# Altium integrated library Analog Devices Data Converters Digital-to-Analog Converters.IntLib: 2231 symbols (part 134 of 181)
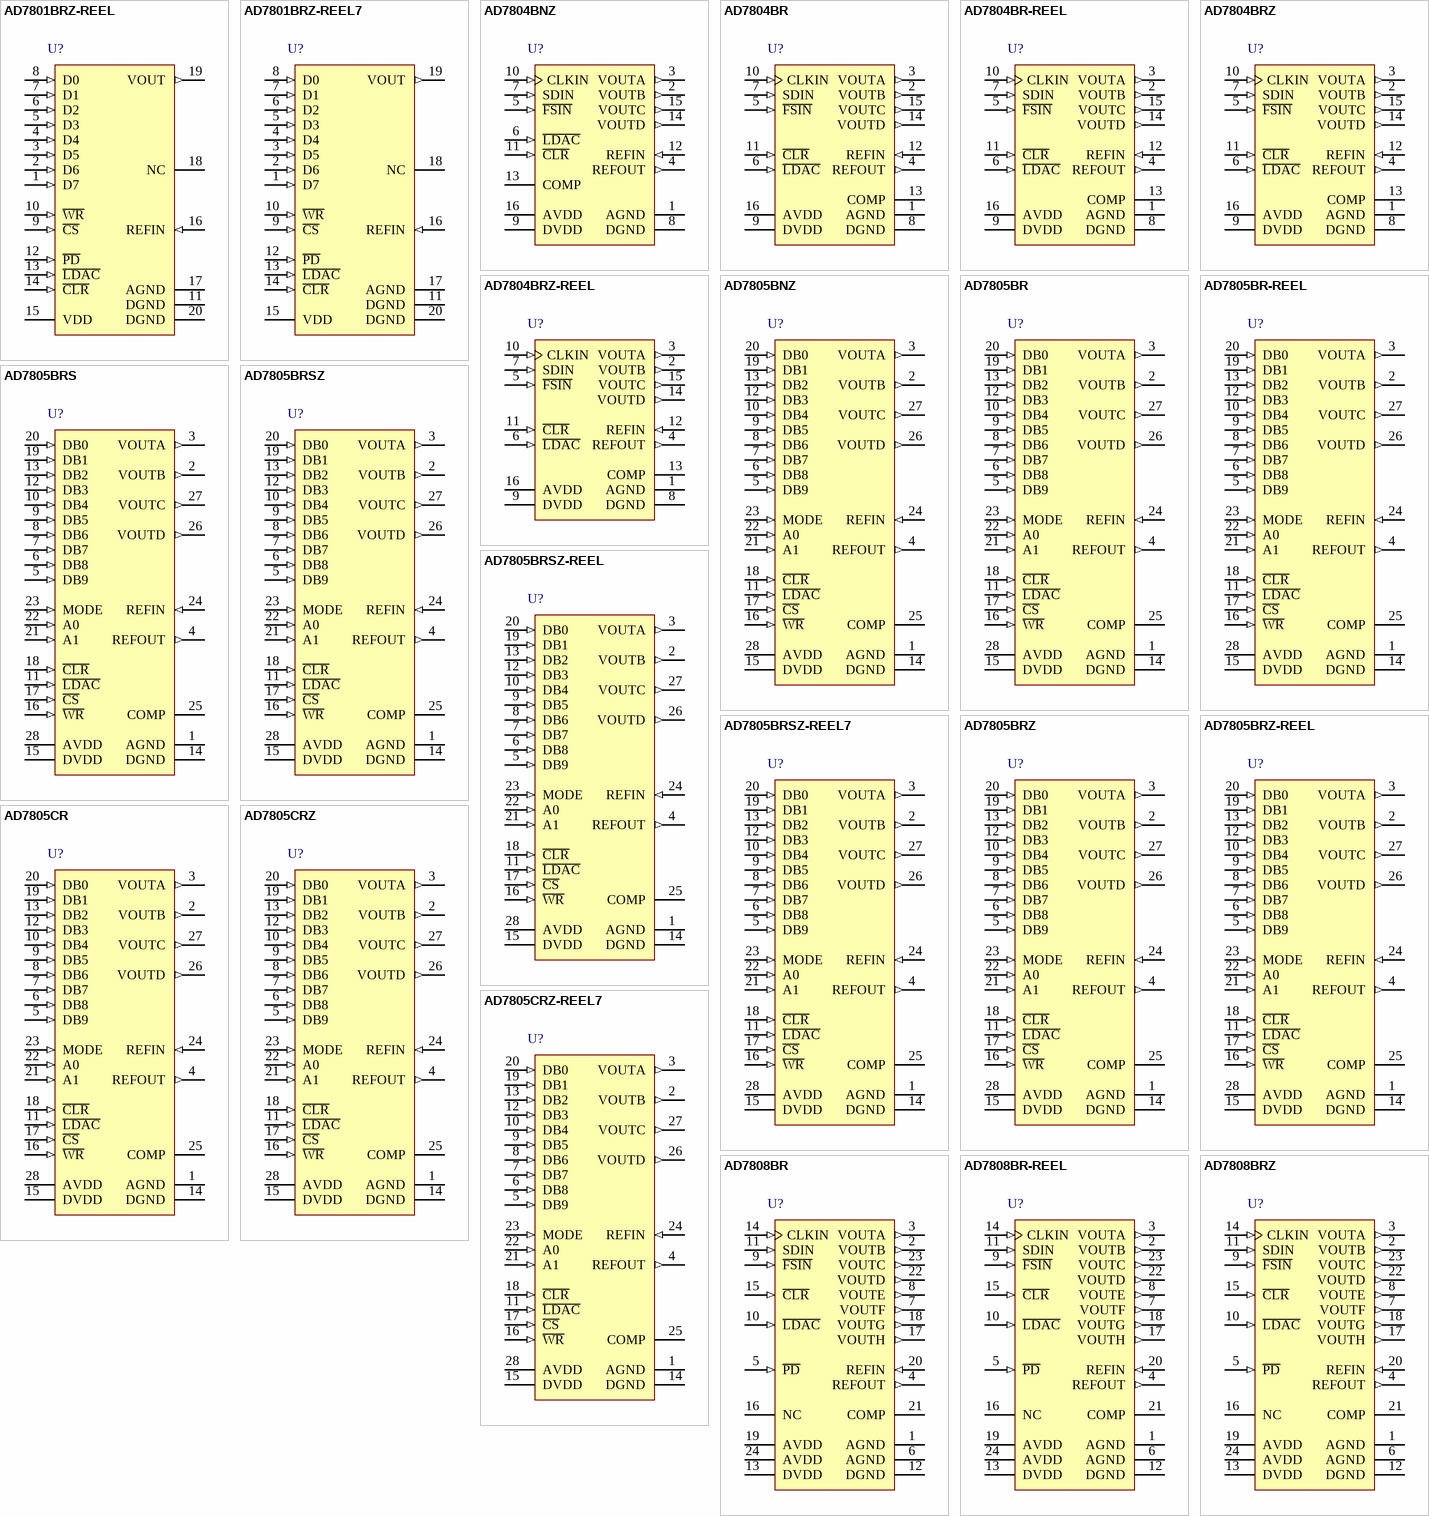
[diagram p247: symbols AD7801BRZ-REEL to AD7808BRZ]

## AD7805BRZ
designator U?
Quad 10-Bit Digital-to-Analog Converter, 3.3 to 5 V, 0 to +70 degC, RW-28, Pb-Free, Tube; Generic Part Number: AD7805; Manufacturer: Analog Devices; PartNumber: AD7805BRZ; # DAC Outputs: 4; Max V+: 5.5V; Op Pwr Diss: 66mW; Resolution (Bits): 10; Settling Time: 1.5µs; Single Supply: Yes; DatasheetVersion: Rev.A; PackageVersion: 060706-A; PackageReference: RW-28; PackageDescription: 28-Lead Standard Small Outline Package [SOIC_W]; Supplier 1: Digi-Key; Supplier Part Number 1: AD7805BRZ-ND; Supplier 2: Mouser; Supplier Part Number 2: 584-AD7805BRZ; Packing: Tube; RoHS: Y; Mounting Technology: Surface Mount; Code_JEDEC: MS-013-AE; ComponentLink1Description: Manufacturer URL; ComponentLink1URL: http://www.analog.com/en/index.html; ComponentLink2Description: Datasheet; ComponentLink2URL: http://www.analog.com/static/imported-files/data_sheets/AD7804_7805_7808_7809.pdf; ComponentLink3Description: Product URL; ComponentLink3URL: http://www.analog.com/en/digital-to-analog-converters/da-converters/ad7805/products/product.html
footprint RW-28_N (SOIC, 28-Leads, Body 17.9x7.5mm, Pitch 1.27mm, IPC Medium Density)
footprint RW-28_L (SOIC, 28-Leads, Body 17.9x7.5mm, Pitch 1.27mm, IPC High Density)
footprint RW-28_M (SOIC, 28-Leads, Body 17.9x7.5mm, Pitch 1.27mm, IPC Low Density)
pins: 1 AGND (power) "Ground reference point for analog circuitry.", 2 VOUTB (out) "Analog output voltages from the DACs.", 3 VOUTA (out) "Analog output voltages from the DACs.", 4 REFOUT (out) "Reference Output. This is a bandgap reference and is typically 1.23 V.", 5 DB9 (in) "Data Input. DB9 is the 8 MSBs of the data word.", 6 DB8 (in) "Data Input. DB8 is the 8 MSBs of the data word.", 7 DB7 (in) "Data Input. DB7 is the 8 MSBs of the data word.", 8 DB6 (in) "Data Input. DB6 is the 8 MSBs of the data word.", 9 DB5 (in) "Data Input. DB5 is the 8 MSBs of the data word.", 10 DB4 (in) "Data Input. DB4 is the 8 MSBs of the data word.", 11 ~{LDAC} (in) "L\D\A\C\ Input. When this digital input is taken low, all DAC registers are simultaneously updated with the contents of the DAC data registers. If L\D\A\C\ is permanently tied low, or is low during the rising edge of W\R\ (See Datasheet)", 12 DB3 (in) "Data Input. DB3 is the 8 MSBs of the data word.", 13 DB2 (in) "Data Input. DB2 is the 8 MSBs of the data word.", 14 DGND (power) "Ground reference point for digital circuitry.", 15 DVDD (power) "Digital Power Supply.", 16 ~{WR} (in) "Write Input W\R\ is an active low logic input which is used in conjunction with C\S\ and the address pins to write data to the relevant registers.", 17 ~{CS} (in) "Chip Select. Active low logic input.", 18 ~{CLR} (in) "Asynchronous C\L\R\ Input.  When this input is taken low, all Main DAC outputs are cleared either to VBIAS or to VBIAS/16 volts. All Sub DACs are also cleared and thus the transfer function of the MAIN DAC will remain (See Datasheet)", 19 DB1 (in) "DB1 function as the 2 LSBs of the 10-bit word in 10-bit parallel mode but have other functions when BYTE loading structure is used.", 20 DB0 (in) "DB0 function as the 2 LSBs of the 10-bit word in 10-bit parallel mode but have other functions when BYTE loading structure is used.", 21 A1 (in) "DAC Address Inputs. These digital inputs are used in conjunction with C\S\ and W\R\ to determine which DAC channel control register or DAC data register is loaded from the input register. These address bits are don’t cares (See Datasheet)", 22 A0 (in) "DAC Address Inputs. These digital inputs are used in conjunction with C\S\ and W\R\ to determine which DAC channel control register or DAC data register is loaded from the input register. These address bits are don’t cares (See Datasheet)", 23 MODE (in) "Logic Input. Logic high enables writing to the DAC data registers, a logic low enables writing to the control registers.", 24 REFIN (in) "This is an external reference input for the DAC. When this reference is selected for the DAC in the control register, the analog output from the selected DAC swings around this point.", 25 COMP "Compensation Pin. This pin provides an output from the internal VDD/2 divider and is provided for ac bypass purposes only. This pin should be decoupled with 1 nF capacitors to both AVDD and AGND. This pin can be overdriven (See Datasheet)", 26 VOUTD (out) "Analog output voltages from the DACs.", 27 VOUTC (out) "Analog output voltages from the DACs.", 28 AVDD (power) "Analog Power Supply."

## AD7805BRZ-REEL
designator U?
Quad 10-Bit Digital-to-Analog Converter, 3.3 to 5 V, 0 to +70 degC, RW-28, Pb-Free, Reel; Generic Part Number: AD7805; Manufacturer: Analog Devices; PartNumber: AD7805BRZ-REEL; # DAC Outputs: 4; Max V+: 5.5V; Op Pwr Diss: 66mW; Resolution (Bits): 10; Settling Time: 1.5µs; Single Supply: Yes; DatasheetVersion: Rev.A; PackageVersion: 060706-A; PackageReference: RW-28; PackageDescription: 28-Lead Standard Small Outline Package [SOIC_W]; Supplier 1: Digi-Key; Supplier Part Number 1: AD7805BRZ-REEL-ND; Supplier 2: Mouser; Supplier Part Number 2: 584-AD7805BRZ-R; Packing: Reel; RoHS: Y; Mounting Technology: Surface Mount; Code_JEDEC: MS-013-AE; ComponentLink1Description: Manufacturer URL; ComponentLink1URL: http://www.analog.com/en/index.html; ComponentLink2Description: Datasheet; ComponentLink2URL: http://www.analog.com/static/imported-files/data_sheets/AD7804_7805_7808_7809.pdf; ComponentLink3Description: Product URL; ComponentLink3URL: http://www.analog.com/en/digital-to-analog-converters/da-converters/ad7805/products/product.html
footprint RW-28_N (SOIC, 28-Leads, Body 17.9x7.5mm, Pitch 1.27mm, IPC Medium Density)
footprint RW-28_L (SOIC, 28-Leads, Body 17.9x7.5mm, Pitch 1.27mm, IPC High Density)
footprint RW-28_M (SOIC, 28-Leads, Body 17.9x7.5mm, Pitch 1.27mm, IPC Low Density)
pins: 1 AGND (power) "Ground reference point for analog circuitry.", 2 VOUTB (out) "Analog output voltages from the DACs.", 3 VOUTA (out) "Analog output voltages from the DACs.", 4 REFOUT (out) "Reference Output. This is a bandgap reference and is typically 1.23 V.", 5 DB9 (in) "Data Input. DB9 is the 8 MSBs of the data word.", 6 DB8 (in) "Data Input. DB8 is the 8 MSBs of the data word.", 7 DB7 (in) "Data Input. DB7 is the 8 MSBs of the data word.", 8 DB6 (in) "Data Input. DB6 is the 8 MSBs of the data word.", 9 DB5 (in) "Data Input. DB5 is the 8 MSBs of the data word.", 10 DB4 (in) "Data Input. DB4 is the 8 MSBs of the data word.", 11 ~{LDAC} (in) "L\D\A\C\ Input. When this digital input is taken low, all DAC registers are simultaneously updated with the contents of the DAC data registers. If L\D\A\C\ is permanently tied low, or is low during the rising edge of W\R\ (See Datasheet)", 12 DB3 (in) "Data Input. DB3 is the 8 MSBs of the data word.", 13 DB2 (in) "Data Input. DB2 is the 8 MSBs of the data word.", 14 DGND (power) "Ground reference point for digital circuitry.", 15 DVDD (power) "Digital Power Supply.", 16 ~{WR} (in) "Write Input W\R\ is an active low logic input which is used in conjunction with C\S\ and the address pins to write data to the relevant registers.", 17 ~{CS} (in) "Chip Select. Active low logic input.", 18 ~{CLR} (in) "Asynchronous C\L\R\ Input.  When this input is taken low, all Main DAC outputs are cleared either to VBIAS or to VBIAS/16 volts. All Sub DACs are also cleared and thus the transfer function of the MAIN DAC will remain (See Datasheet)", 19 DB1 (in) "DB1 function as the 2 LSBs of the 10-bit word in 10-bit parallel mode but have other functions when BYTE loading structure is used.", 20 DB0 (in) "DB0 function as the 2 LSBs of the 10-bit word in 10-bit parallel mode but have other functions when BYTE loading structure is used.", 21 A1 (in) "DAC Address Inputs. These digital inputs are used in conjunction with C\S\ and W\R\ to determine which DAC channel control register or DAC data register is loaded from the input register. These address bits are don’t cares (See Datasheet)", 22 A0 (in) "DAC Address Inputs. These digital inputs are used in conjunction with C\S\ and W\R\ to determine which DAC channel control register or DAC data register is loaded from the input register. These address bits are don’t cares (See Datasheet)", 23 MODE (in) "Logic Input. Logic high enables writing to the DAC data registers, a logic low enables writing to the control registers.", 24 REFIN (in) "This is an external reference input for the DAC. When this reference is selected for the DAC in the control register, the analog output from the selected DAC swings around this point.", 25 COMP "Compensation Pin. This pin provides an output from the internal VDD/2 divider and is provided for ac bypass purposes only. This pin should be decoupled with 1 nF capacitors to both AVDD and AGND. This pin can be overdriven (See Datasheet)", 26 VOUTD (out) "Analog output voltages from the DACs.", 27 VOUTC (out) "Analog output voltages from the DACs.", 28 AVDD (power) "Analog Power Supply."

## AD7805CR
designator U?
Quad 10-Bit Digital-to-Analog Converter, 3.3 to 5 V, 0 to +70 degC, RW-28, Tube; Generic Part Number: AD7805; Manufacturer: Analog Devices; PartNumber: AD7805CR; # DAC Outputs: 4; Max V+: 5.5V; Op Pwr Diss: 66mW; Resolution (Bits): 10; Settling Time: 1.5µs; Single Supply: Yes; DatasheetVersion: Rev.A; PackageVersion: 060706-A; PackageReference: RW-28; PackageDescription: 28-Lead Standard Small Outline Package [SOIC_W]; Supplier 1: Digi-Key; Supplier Part Number 1: AD7805CR-ND; Supplier 2: Mouser; Supplier Part Number 2: 584-AD7805CR; Packing: Tube; RoHS: N; Mounting Technology: Surface Mount; Code_JEDEC: MS-013-AE; ComponentLink1Description: Manufacturer URL; ComponentLink1URL: http://www.analog.com/en/index.html; ComponentLink2Description: Datasheet; ComponentLink2URL: http://www.analog.com/static/imported-files/data_sheets/AD7804_7805_7808_7809.pdf; ComponentLink3Description: Product URL; ComponentLink3URL: http://www.analog.com/en/digital-to-analog-converters/da-converters/ad7805/products/product.html
footprint RW-28_N (SOIC, 28-Leads, Body 17.9x7.5mm, Pitch 1.27mm, IPC Medium Density)
footprint RW-28_L (SOIC, 28-Leads, Body 17.9x7.5mm, Pitch 1.27mm, IPC High Density)
footprint RW-28_M (SOIC, 28-Leads, Body 17.9x7.5mm, Pitch 1.27mm, IPC Low Density)
pins: 1 AGND (power) "Ground reference point for analog circuitry.", 2 VOUTB (out) "Analog output voltages from the DACs.", 3 VOUTA (out) "Analog output voltages from the DACs.", 4 REFOUT (out) "Reference Output. This is a bandgap reference and is typically 1.23 V.", 5 DB9 (in) "Data Input. DB9 is the 8 MSBs of the data word.", 6 DB8 (in) "Data Input. DB8 is the 8 MSBs of the data word.", 7 DB7 (in) "Data Input. DB7 is the 8 MSBs of the data word.", 8 DB6 (in) "Data Input. DB6 is the 8 MSBs of the data word.", 9 DB5 (in) "Data Input. DB5 is the 8 MSBs of the data word.", 10 DB4 (in) "Data Input. DB4 is the 8 MSBs of the data word.", 11 ~{LDAC} (in) "L\D\A\C\ Input. When this digital input is taken low, all DAC registers are simultaneously updated with the contents of the DAC data registers. If L\D\A\C\ is permanently tied low, or is low during the rising edge of W\R\ (See Datasheet)", 12 DB3 (in) "Data Input. DB3 is the 8 MSBs of the data word.", 13 DB2 (in) "Data Input. DB2 is the 8 MSBs of the data word.", 14 DGND (power) "Ground reference point for digital circuitry.", 15 DVDD (power) "Digital Power Supply.", 16 ~{WR} (in) "Write Input W\R\ is an active low logic input which is used in conjunction with C\S\ and the address pins to write data to the relevant registers.", 17 ~{CS} (in) "Chip Select. Active low logic input.", 18 ~{CLR} (in) "Asynchronous C\L\R\ Input.  When this input is taken low, all Main DAC outputs are cleared either to VBIAS or to VBIAS/16 volts. All Sub DACs are also cleared and thus the transfer function of the MAIN DAC will remain (See Datasheet)", 19 DB1 (in) "DB1 function as the 2 LSBs of the 10-bit word in 10-bit parallel mode but have other functions when BYTE loading structure is used.", 20 DB0 (in) "DB0 function as the 2 LSBs of the 10-bit word in 10-bit parallel mode but have other functions when BYTE loading structure is used.", 21 A1 (in) "DAC Address Inputs. These digital inputs are used in conjunction with C\S\ and W\R\ to determine which DAC channel control register or DAC data register is loaded from the input register. These address bits are don’t cares (See Datasheet)", 22 A0 (in) "DAC Address Inputs. These digital inputs are used in conjunction with C\S\ and W\R\ to determine which DAC channel control register or DAC data register is loaded from the input register. These address bits are don’t cares (See Datasheet)", 23 MODE (in) "Logic Input. Logic high enables writing to the DAC data registers, a logic low enables writing to the control registers.", 24 REFIN (in) "This is an external reference input for the DAC. When this reference is selected for the DAC in the control register, the analog output from the selected DAC swings around this point.", 25 COMP "Compensation Pin. This pin provides an output from the internal VDD/2 divider and is provided for ac bypass purposes only. This pin should be decoupled with 1 nF capacitors to both AVDD and AGND. This pin can be overdriven (See Datasheet)", 26 VOUTD (out) "Analog output voltages from the DACs.", 27 VOUTC (out) "Analog output voltages from the DACs.", 28 AVDD (power) "Analog Power Supply."

## AD7805CRZ
designator U?
Quad 10-Bit Digital-to-Analog Converter, 3.3 to 5 V, 0 to +70 degC, RW-28, Pb-Free, Tube; Generic Part Number: AD7805; Manufacturer: Analog Devices; PartNumber: AD7805CRZ; # DAC Outputs: 4; Max V+: 5.5V; Op Pwr Diss: 66mW; Resolution (Bits): 10; Settling Time: 1.5µs; Single Supply: Yes; DatasheetVersion: Rev.A; PackageVersion: 060706-A; PackageReference: RW-28; PackageDescription: 28-Lead Standard Small Outline Package [SOIC_W]; Supplier 1: Digi-Key; Supplier Part Number 1: AD7805CRZ-ND; Supplier 2: Mouser; Supplier Part Number 2: 584-AD7805CRZ; Packing: Tube; RoHS: Y; Mounting Technology: Surface Mount; Code_JEDEC: MS-013-AE; ComponentLink1Description: Manufacturer URL; ComponentLink1URL: http://www.analog.com/en/index.html; ComponentLink2Description: Datasheet; ComponentLink2URL: http://www.analog.com/static/imported-files/data_sheets/AD7804_7805_7808_7809.pdf; ComponentLink3Description: Product URL; ComponentLink3URL: http://www.analog.com/en/digital-to-analog-converters/da-converters/ad7805/products/product.html
footprint RW-28_N (SOIC, 28-Leads, Body 17.9x7.5mm, Pitch 1.27mm, IPC Medium Density)
footprint RW-28_L (SOIC, 28-Leads, Body 17.9x7.5mm, Pitch 1.27mm, IPC High Density)
footprint RW-28_M (SOIC, 28-Leads, Body 17.9x7.5mm, Pitch 1.27mm, IPC Low Density)
pins: 1 AGND (power) "Ground reference point for analog circuitry.", 2 VOUTB (out) "Analog output voltages from the DACs.", 3 VOUTA (out) "Analog output voltages from the DACs.", 4 REFOUT (out) "Reference Output. This is a bandgap reference and is typically 1.23 V.", 5 DB9 (in) "Data Input. DB9 is the 8 MSBs of the data word.", 6 DB8 (in) "Data Input. DB8 is the 8 MSBs of the data word.", 7 DB7 (in) "Data Input. DB7 is the 8 MSBs of the data word.", 8 DB6 (in) "Data Input. DB6 is the 8 MSBs of the data word.", 9 DB5 (in) "Data Input. DB5 is the 8 MSBs of the data word.", 10 DB4 (in) "Data Input. DB4 is the 8 MSBs of the data word.", 11 ~{LDAC} (in) "L\D\A\C\ Input. When this digital input is taken low, all DAC registers are simultaneously updated with the contents of the DAC data registers. If L\D\A\C\ is permanently tied low, or is low during the rising edge of W\R\ (See Datasheet)", 12 DB3 (in) "Data Input. DB3 is the 8 MSBs of the data word.", 13 DB2 (in) "Data Input. DB2 is the 8 MSBs of the data word.", 14 DGND (power) "Ground reference point for digital circuitry.", 15 DVDD (power) "Digital Power Supply.", 16 ~{WR} (in) "Write Input W\R\ is an active low logic input which is used in conjunction with C\S\ and the address pins to write data to the relevant registers.", 17 ~{CS} (in) "Chip Select. Active low logic input.", 18 ~{CLR} (in) "Asynchronous C\L\R\ Input.  When this input is taken low, all Main DAC outputs are cleared either to VBIAS or to VBIAS/16 volts. All Sub DACs are also cleared and thus the transfer function of the MAIN DAC will remain (See Datasheet)", 19 DB1 (in) "DB1 function as the 2 LSBs of the 10-bit word in 10-bit parallel mode but have other functions when BYTE loading structure is used.", 20 DB0 (in) "DB0 function as the 2 LSBs of the 10-bit word in 10-bit parallel mode but have other functions when BYTE loading structure is used.", 21 A1 (in) "DAC Address Inputs. These digital inputs are used in conjunction with C\S\ and W\R\ to determine which DAC channel control register or DAC data register is loaded from the input register. These address bits are don’t cares (See Datasheet)", 22 A0 (in) "DAC Address Inputs. These digital inputs are used in conjunction with C\S\ and W\R\ to determine which DAC channel control register or DAC data register is loaded from the input register. These address bits are don’t cares (See Datasheet)", 23 MODE (in) "Logic Input. Logic high enables writing to the DAC data registers, a logic low enables writing to the control registers.", 24 REFIN (in) "This is an external reference input for the DAC. When this reference is selected for the DAC in the control register, the analog output from the selected DAC swings around this point.", 25 COMP "Compensation Pin. This pin provides an output from the internal VDD/2 divider and is provided for ac bypass purposes only. This pin should be decoupled with 1 nF capacitors to both AVDD and AGND. This pin can be overdriven (See Datasheet)", 26 VOUTD (out) "Analog output voltages from the DACs.", 27 VOUTC (out) "Analog output voltages from the DACs.", 28 AVDD (power) "Analog Power Supply."

## AD7805CRZ-REEL7
designator U?
Quad 10-Bit Digital-to-Analog Converter, 3.3 to 5 V, 0 to +70 degC, RW-28, Pb-Free, Reel; Generic Part Number: AD7805; Manufacturer: Analog Devices; PartNumber: AD7805CRZ-REEL7; # DAC Outputs: 4; Max V+: 5.5V; Op Pwr Diss: 66mW; Resolution (Bits): 10; Settling Time: 1.5µs; Single Supply: Yes; DatasheetVersion: Rev.A; PackageVersion: 060706-A; PackageReference: RW-28; PackageDescription: 28-Lead Standard Small Outline Package [SOIC_W]; Supplier 1: Digi-Key; Supplier Part Number 1: AD7805CRZ-REEL7-ND; Supplier 2: Mouser; Supplier Part Number 2: 584-AD7805CRZ-R7; Packing: Reel; RoHS: Y; Mounting Technology: Surface Mount; Code_JEDEC: MS-013-AE; ComponentLink1Description: Manufacturer URL; ComponentLink1URL: http://www.analog.com/en/index.html; ComponentLink2Description: Datasheet; ComponentLink2URL: http://www.analog.com/static/imported-files/data_sheets/AD7804_7805_7808_7809.pdf; ComponentLink3Description: Product URL; ComponentLink3URL: http://www.analog.com/en/digital-to-analog-converters/da-converters/ad7805/products/product.html
footprint RW-28_N (SOIC, 28-Leads, Body 17.9x7.5mm, Pitch 1.27mm, IPC Medium Density)
footprint RW-28_L (SOIC, 28-Leads, Body 17.9x7.5mm, Pitch 1.27mm, IPC High Density)
footprint RW-28_M (SOIC, 28-Leads, Body 17.9x7.5mm, Pitch 1.27mm, IPC Low Density)
pins: 1 AGND (power) "Ground reference point for analog circuitry.", 2 VOUTB (out) "Analog output voltages from the DACs.", 3 VOUTA (out) "Analog output voltages from the DACs.", 4 REFOUT (out) "Reference Output. This is a bandgap reference and is typically 1.23 V.", 5 DB9 (in) "Data Input. DB9 is the 8 MSBs of the data word.", 6 DB8 (in) "Data Input. DB8 is the 8 MSBs of the data word.", 7 DB7 (in) "Data Input. DB7 is the 8 MSBs of the data word.", 8 DB6 (in) "Data Input. DB6 is the 8 MSBs of the data word.", 9 DB5 (in) "Data Input. DB5 is the 8 MSBs of the data word.", 10 DB4 (in) "Data Input. DB4 is the 8 MSBs of the data word.", 11 ~{LDAC} (in) "L\D\A\C\ Input. When this digital input is taken low, all DAC registers are simultaneously updated with the contents of the DAC data registers. If L\D\A\C\ is permanently tied low, or is low during the rising edge of W\R\ (See Datasheet)", 12 DB3 (in) "Data Input. DB3 is the 8 MSBs of the data word.", 13 DB2 (in) "Data Input. DB2 is the 8 MSBs of the data word.", 14 DGND (power) "Ground reference point for digital circuitry.", 15 DVDD (power) "Digital Power Supply.", 16 ~{WR} (in) "Write Input W\R\ is an active low logic input which is used in conjunction with C\S\ and the address pins to write data to the relevant registers.", 17 ~{CS} (in) "Chip Select. Active low logic input.", 18 ~{CLR} (in) "Asynchronous C\L\R\ Input.  When this input is taken low, all Main DAC outputs are cleared either to VBIAS or to VBIAS/16 volts. All Sub DACs are also cleared and thus the transfer function of the MAIN DAC will remain (See Datasheet)", 19 DB1 (in) "DB1 function as the 2 LSBs of the 10-bit word in 10-bit parallel mode but have other functions when BYTE loading structure is used.", 20 DB0 (in) "DB0 function as the 2 LSBs of the 10-bit word in 10-bit parallel mode but have other functions when BYTE loading structure is used.", 21 A1 (in) "DAC Address Inputs. These digital inputs are used in conjunction with C\S\ and W\R\ to determine which DAC channel control register or DAC data register is loaded from the input register. These address bits are don’t cares (See Datasheet)", 22 A0 (in) "DAC Address Inputs. These digital inputs are used in conjunction with C\S\ and W\R\ to determine which DAC channel control register or DAC data register is loaded from the input register. These address bits are don’t cares (See Datasheet)", 23 MODE (in) "Logic Input. Logic high enables writing to the DAC data registers, a logic low enables writing to the control registers.", 24 REFIN (in) "This is an external reference input for the DAC. When this reference is selected for the DAC in the control register, the analog output from the selected DAC swings around this point.", 25 COMP "Compensation Pin. This pin provides an output from the internal VDD/2 divider and is provided for ac bypass purposes only. This pin should be decoupled with 1 nF capacitors to both AVDD and AGND. This pin can be overdriven (See Datasheet)", 26 VOUTD (out) "Analog output voltages from the DACs.", 27 VOUTC (out) "Analog output voltages from the DACs.", 28 AVDD (power) "Analog Power Supply."

## AD7808BR
designator U?
Octal 10-Bit Digital-to-Analog Converter, 3.3 to 5 V, -40 to +85 degC, RW-24, Tube; Generic Part Number: AD7808; Manufacturer: Analog Devices; PartNumber: AD7808BR; # DAC Outputs: 8; Max V+: 5.5V; Op Pwr Diss: 99mW; Resolution (Bits): 10; Settling Time: 1.5µs; Single Supply: Yes; DatasheetVersion: Rev.A; PackageVersion: 060706-A; PackageReference: RW-24; PackageDescription: 24-Lead Standard Small Outline Package [SOIC_W]; Supplier 1: Digi-Key; Supplier Part Number 1: AD7808BR-ND; Supplier 2: Mouser; Supplier Part Number 2: 584-AD7808BR; Packing: Tube; RoHS: N; Mounting Technology: Surface Mount; Code_JEDEC: MS-013-AD; ComponentLink1Description: Manufacturer URL; ComponentLink1URL: http://www.analog.com/en/index.html; ComponentLink2Description: Datasheet; ComponentLink2URL: http://www.analog.com/static/imported-files/data_sheets/AD7804_7805_7808_7809.pdf; ComponentLink3Description: Package Specification; ComponentLink3URL: http://www.analog.com/static/imported-files/packages/33665150946139RW_24.pdf; ComponentLink4Description: Product URL; ComponentLink4URL: http://www.analog.com/en/digital-to-analog-converters/da-converters/ad7808/products/product.html
footprint RW-24_N (SOIC, 24-Leads, Body 15.4x7.5mm, Pitch 1.27mm, IPC Medium Density)
footprint RW-24_L (SOIC, 24-Leads, Body 15.4x7.5mm, Pitch 1.27mm, IPC High Density)
footprint RW-24_M (SOIC, 24-Leads, Body 15.4x7.5mm, Pitch 1.27mm, IPC Low Density)
pins: 1 AGND (power) "Ground reference point for analog circuitry.", 2 VOUTB (out) "Analog output voltage from the DACs.", 3 VOUTA (out) "Analog output voltage from the DACs.", 4 REFOUT (out) "Reference Output. This is a bandgap reference and is typically 1.23 V.", 5 ~{PD} (in) "Active low input used to put the part into low power mode reducing current consumption to 1 uA.", 6 AGND (power) "Ground reference point for analog circuitry.", 7 VOUTF (out) "Analog output voltages from the DACs.", 8 VOUTE (out) "Analog output voltages from the DACs.", 9 ~{FSIN} (in) "Level-triggered control input (active low).  This is the frame synchronization signal for the input data.  When F\S\I\N\ goes low, it enables the input shift register and data is transferred on the falling edges of CLKIN.", 10 ~{LDAC} (in) "L\D\A\C\ Input.  When this digital input is taken low, all DAC registers are simultaneously updated with the contents of the data registers. If  L\D\A\C\ is tied permanently low, or is low on the sixteenth falling clock edge (See Datasheet)", 11 SDIN (in) "Serial Data Input.  These devices accept a 16-bit word. Data is clocked into the input shift register on the falling edge of CLKIN.", 12 DGND (power) "Ground reference point for digital circuitry.", 13 DVDD (power) "Digital Power Supply.", 14 CLKIN (in) "Clock Input.  Data is clocked into the input shift register on the falling edges of CLKIN.Duty Cycle should be between 40% and 60%.", 15 ~{CLR} (in) "Asynchronous C\L\R\ Input. When this input is taken low, all Main DAC outputs are cleared either to VBIAS or to VBIAS/16 volts. All Sub DACs are also cleared and thus the transfer function of the Main DAC will remain (See Datasheet)", 16 NC "No Connect. This pin should be left open circuit.", 17 VOUTH (out) "Analog output voltages from the DACs.", 18 VOUTG (out) "Analog output voltages from the DACs.", 19 AVDD (power) "Analog Power Supply. +3.3 V to +5 V.", 20 REFIN (in) "This is an external reference input for the DACs. When this reference is selected for a DAC in the control register, the analog output from the selected DAC swings around this point.", 21 COMP "Compensation Pin. This pin provides an output from the internal VDD/2 divider and is provided for ac bypass purposes only. This pin should be decoupled with 1 nF capacitors to both AVDD and AGND. This pin can be overdriven (See Datasheet)", 22 VOUTD (out) "Analog output voltage from the DACs.", 23 VOUTC (out) "Analog output voltage from the DACs.", 24 AVDD (power) "Analog Power Supply. +3.3 V to +5 V."

## AD7808BR-REEL
designator U?
Octal 10-Bit Digital-to-Analog Converter, 3.3 to 5 V, -40 to +85 degC, RW-24, Reel; Generic Part Number: AD7808; Manufacturer: Analog Devices; PartNumber: AD7808BR-REEL; # DAC Outputs: 8; Max V+: 5.5V; Op Pwr Diss: 99mW; Resolution (Bits): 10; Settling Time: 1.5µs; Single Supply: Yes; DatasheetVersion: Rev.A; PackageVersion: 060706-A; PackageReference: RW-24; PackageDescription: 24-Lead Standard Small Outline Package [SOIC_W]; Supplier 1: Digi-Key; Supplier Part Number 1: AD7808BR-REEL-ND; Supplier 2: Mouser; Supplier Part Number 2: 584-AD7808BR-R; Packing: Reel; RoHS: N; Mounting Technology: Surface Mount; Code_JEDEC: MS-013-AD; ComponentLink1Description: Manufacturer URL; ComponentLink1URL: http://www.analog.com/en/index.html; ComponentLink2Description: Datasheet; ComponentLink2URL: http://www.analog.com/static/imported-files/data_sheets/AD7804_7805_7808_7809.pdf; ComponentLink3Description: Package Specification; ComponentLink3URL: http://www.analog.com/static/imported-files/packages/33665150946139RW_24.pdf; ComponentLink4Description: Product URL; ComponentLink4URL: http://www.analog.com/en/digital-to-analog-converters/da-converters/ad7808/products/product.html
footprint RW-24_N (SOIC, 24-Leads, Body 15.4x7.5mm, Pitch 1.27mm, IPC Medium Density)
footprint RW-24_L (SOIC, 24-Leads, Body 15.4x7.5mm, Pitch 1.27mm, IPC High Density)
footprint RW-24_M (SOIC, 24-Leads, Body 15.4x7.5mm, Pitch 1.27mm, IPC Low Density)
pins: 1 AGND (power) "Ground reference point for analog circuitry.", 2 VOUTB (out) "Analog output voltage from the DACs.", 3 VOUTA (out) "Analog output voltage from the DACs.", 4 REFOUT (out) "Reference Output. This is a bandgap reference and is typically 1.23 V.", 5 ~{PD} (in) "Active low input used to put the part into low power mode reducing current consumption to 1 uA.", 6 AGND (power) "Ground reference point for analog circuitry.", 7 VOUTF (out) "Analog output voltages from the DACs.", 8 VOUTE (out) "Analog output voltages from the DACs.", 9 ~{FSIN} (in) "Level-triggered control input (active low).  This is the frame synchronization signal for the input data.  When F\S\I\N\ goes low, it enables the input shift register and data is transferred on the falling edges of CLKIN.", 10 ~{LDAC} (in) "L\D\A\C\ Input.  When this digital input is taken low, all DAC registers are simultaneously updated with the contents of the data registers. If  L\D\A\C\ is tied permanently low, or is low on the sixteenth falling clock edge (See Datasheet)", 11 SDIN (in) "Serial Data Input.  These devices accept a 16-bit word. Data is clocked into the input shift register on the falling edge of CLKIN.", 12 DGND (power) "Ground reference point for digital circuitry.", 13 DVDD (power) "Digital Power Supply.", 14 CLKIN (in) "Clock Input.  Data is clocked into the input shift register on the falling edges of CLKIN.Duty Cycle should be between 40% and 60%.", 15 ~{CLR} (in) "Asynchronous C\L\R\ Input. When this input is taken low, all Main DAC outputs are cleared either to VBIAS or to VBIAS/16 volts. All Sub DACs are also cleared and thus the transfer function of the Main DAC will remain (See Datasheet)", 16 NC "No Connect. This pin should be left open circuit.", 17 VOUTH (out) "Analog output voltages from the DACs.", 18 VOUTG (out) "Analog output voltages from the DACs.", 19 AVDD (power) "Analog Power Supply. +3.3 V to +5 V.", 20 REFIN (in) "This is an external reference input for the DACs. When this reference is selected for a DAC in the control register, the analog output from the selected DAC swings around this point.", 21 COMP "Compensation Pin. This pin provides an output from the internal VDD/2 divider and is provided for ac bypass purposes only. This pin should be decoupled with 1 nF capacitors to both AVDD and AGND. This pin can be overdriven (See Datasheet)", 22 VOUTD (out) "Analog output voltage from the DACs.", 23 VOUTC (out) "Analog output voltage from the DACs.", 24 AVDD (power) "Analog Power Supply. +3.3 V to +5 V."

## AD7808BRZ
designator U?
Octal 10-Bit Digital-to-Analog Converter, 3.3 to 5 V, -40 to +85 degC, RW-24, Pb-Free, Tube; Generic Part Number: AD7808; Manufacturer: Analog Devices; PartNumber: AD7808BRZ; # DAC Outputs: 8; Max V+: 5.5V; Op Pwr Diss: 99mW; Resolution (Bits): 10; Settling Time: 1.5µs; Single Supply: Yes; DatasheetVersion: Rev.A; PackageVersion: 060706-A; PackageReference: RW-24; PackageDescription: 24-Lead Standard Small Outline Package [SOIC_W]; Supplier 1: Digi-Key; Supplier Part Number 1: AD7808BRZ-ND; Supplier 2: Newark; Supplier Part Number 2: 59K5500; Supplier 3: Mouser; Supplier Part Number 3: 584-AD7808BRZ; Packing: Tube; RoHS: Y; Mounting Technology: Surface Mount; Code_JEDEC: MS-013-AD; ComponentLink1Description: Manufacturer URL; ComponentLink1URL: http://www.analog.com/en/index.html; ComponentLink2Description: Datasheet; ComponentLink2URL: http://www.analog.com/static/imported-files/data_sheets/AD7804_7805_7808_7809.pdf; ComponentLink3Description: Package Specification; ComponentLink3URL: http://www.analog.com/static/imported-files/packages/33665150946139RW_24.pdf; ComponentLink4Description: Product URL; ComponentLink4URL: http://www.analog.com/en/digital-to-analog-converters/da-converters/ad7808/products/product.html
footprint RW-24_N (SOIC, 24-Leads, Body 15.4x7.5mm, Pitch 1.27mm, IPC Medium Density)
footprint RW-24_L (SOIC, 24-Leads, Body 15.4x7.5mm, Pitch 1.27mm, IPC High Density)
footprint RW-24_M (SOIC, 24-Leads, Body 15.4x7.5mm, Pitch 1.27mm, IPC Low Density)
pins: 1 AGND (power) "Ground reference point for analog circuitry.", 2 VOUTB (out) "Analog output voltage from the DACs.", 3 VOUTA (out) "Analog output voltage from the DACs.", 4 REFOUT (out) "Reference Output. This is a bandgap reference and is typically 1.23 V.", 5 ~{PD} (in) "Active low input used to put the part into low power mode reducing current consumption to 1 uA.", 6 AGND (power) "Ground reference point for analog circuitry.", 7 VOUTF (out) "Analog output voltages from the DACs.", 8 VOUTE (out) "Analog output voltages from the DACs.", 9 ~{FSIN} (in) "Level-triggered control input (active low).  This is the frame synchronization signal for the input data.  When F\S\I\N\ goes low, it enables the input shift register and data is transferred on the falling edges of CLKIN.", 10 ~{LDAC} (in) "L\D\A\C\ Input.  When this digital input is taken low, all DAC registers are simultaneously updated with the contents of the data registers. If  L\D\A\C\ is tied permanently low, or is low on the sixteenth falling clock edge (See Datasheet)", 11 SDIN (in) "Serial Data Input.  These devices accept a 16-bit word. Data is clocked into the input shift register on the falling edge of CLKIN.", 12 DGND (power) "Ground reference point for digital circuitry.", 13 DVDD (power) "Digital Power Supply.", 14 CLKIN (in) "Clock Input.  Data is clocked into the input shift register on the falling edges of CLKIN.Duty Cycle should be between 40% and 60%.", 15 ~{CLR} (in) "Asynchronous C\L\R\ Input. When this input is taken low, all Main DAC outputs are cleared either to VBIAS or to VBIAS/16 volts. All Sub DACs are also cleared and thus the transfer function of the Main DAC will remain (See Datasheet)", 16 NC "No Connect. This pin should be left open circuit.", 17 VOUTH (out) "Analog output voltages from the DACs.", 18 VOUTG (out) "Analog output voltages from the DACs.", 19 AVDD (power) "Analog Power Supply. +3.3 V to +5 V.", 20 REFIN (in) "This is an external reference input for the DACs. When this reference is selected for a DAC in the control register, the analog output from the selected DAC swings around this point.", 21 COMP "Compensation Pin. This pin provides an output from the internal VDD/2 divider and is provided for ac bypass purposes only. This pin should be decoupled with 1 nF capacitors to both AVDD and AGND. This pin can be overdriven (See Datasheet)", 22 VOUTD (out) "Analog output voltage from the DACs.", 23 VOUTC (out) "Analog output voltage from the DACs.", 24 AVDD (power) "Analog Power Supply. +3.3 V to +5 V."

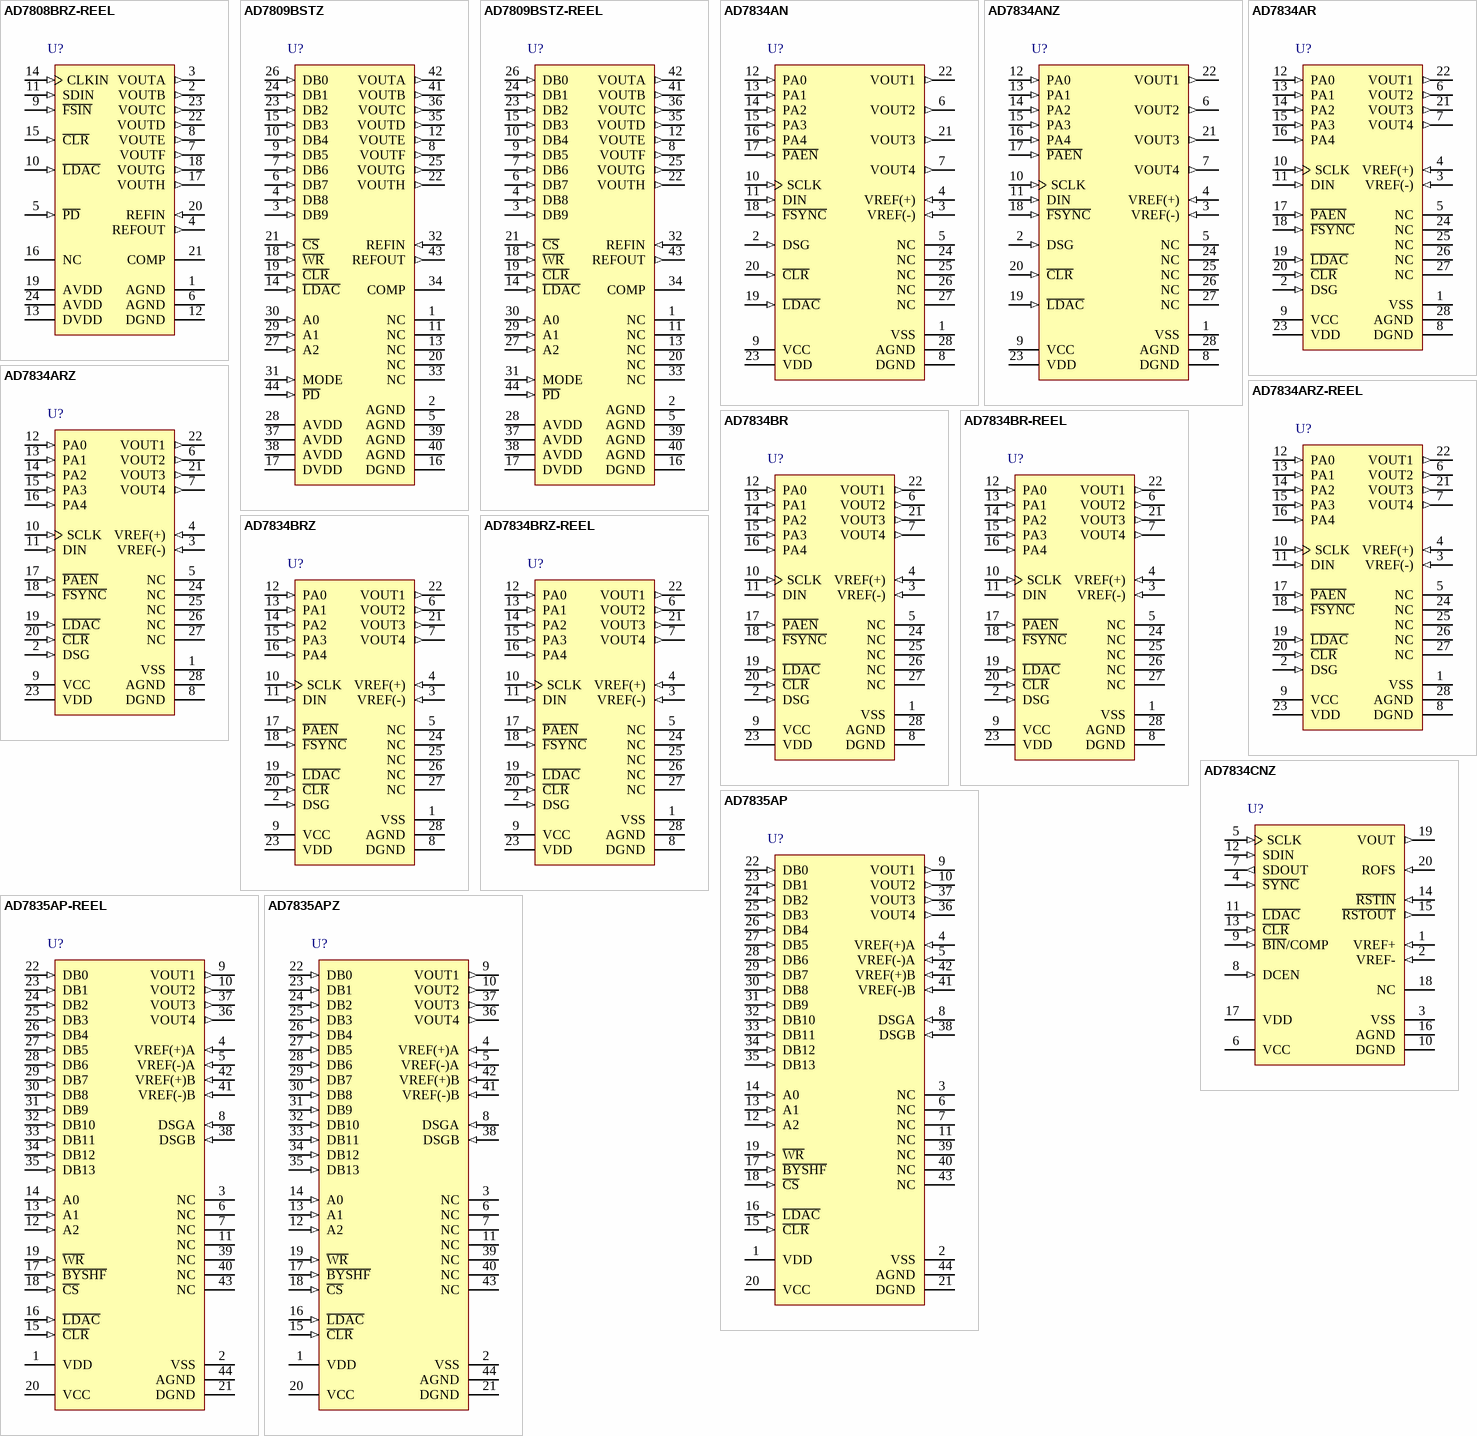
[diagram p74: symbols AD7808BRZ-REEL to AD7835APZ]

## AD7808BRZ-REEL
designator U?
Octal 10-Bit Digital-to-Analog Converter, 3.3 to 5 V, -40 to +85 degC, RW-24, Pb-Free, Reel; Generic Part Number: AD7808; Manufacturer: Analog Devices; PartNumber: AD7808BRZ-REEL; # DAC Outputs: 8; Max V+: 5.5V; Op Pwr Diss: 99mW; Resolution (Bits): 10; Settling Time: 1.5µs; Single Supply: Yes; DatasheetVersion: Rev.A; PackageVersion: 060706-A; PackageReference: RW-24; PackageDescription: 24-Lead Standard Small Outline Package [SOIC_W]; Supplier 1: Digi-Key; Supplier Part Number 1: AD7808BRZ-REEL-ND; Supplier 2: Mouser; Supplier Part Number 2: 584-AD7808BRZ-R; Packing: Reel; RoHS: Y; Mounting Technology: Surface Mount; Code_JEDEC: MS-013-AD; ComponentLink1Description: Manufacturer URL; ComponentLink1URL: http://www.analog.com/en/index.html; ComponentLink2Description: Datasheet; ComponentLink2URL: http://www.analog.com/static/imported-files/data_sheets/AD7804_7805_7808_7809.pdf; ComponentLink3Description: Package Specification; ComponentLink3URL: http://www.analog.com/static/imported-files/packages/33665150946139RW_24.pdf; ComponentLink4Description: Product URL; ComponentLink4URL: http://www.analog.com/en/digital-to-analog-converters/da-converters/ad7808/products/product.html
footprint RW-24_N (SOIC, 24-Leads, Body 15.4x7.5mm, Pitch 1.27mm, IPC Medium Density)
footprint RW-24_L (SOIC, 24-Leads, Body 15.4x7.5mm, Pitch 1.27mm, IPC High Density)
footprint RW-24_M (SOIC, 24-Leads, Body 15.4x7.5mm, Pitch 1.27mm, IPC Low Density)
pins: 1 AGND (power) "Ground reference point for analog circuitry.", 2 VOUTB (out) "Analog output voltage from the DACs.", 3 VOUTA (out) "Analog output voltage from the DACs.", 4 REFOUT (out) "Reference Output. This is a bandgap reference and is typically 1.23 V.", 5 ~{PD} (in) "Active low input used to put the part into low power mode reducing current consumption to 1 uA.", 6 AGND (power) "Ground reference point for analog circuitry.", 7 VOUTF (out) "Analog output voltages from the DACs.", 8 VOUTE (out) "Analog output voltages from the DACs.", 9 ~{FSIN} (in) "Level-triggered control input (active low).  This is the frame synchronization signal for the input data.  When F\S\I\N\ goes low, it enables the input shift register and data is transferred on the falling edges of CLKIN.", 10 ~{LDAC} (in) "L\D\A\C\ Input.  When this digital input is taken low, all DAC registers are simultaneously updated with the contents of the data registers. If  L\D\A\C\ is tied permanently low, or is low on the sixteenth falling clock edge (See Datasheet)", 11 SDIN (in) "Serial Data Input.  These devices accept a 16-bit word. Data is clocked into the input shift register on the falling edge of CLKIN.", 12 DGND (power) "Ground reference point for digital circuitry.", 13 DVDD (power) "Digital Power Supply.", 14 CLKIN (in) "Clock Input.  Data is clocked into the input shift register on the falling edges of CLKIN.Duty Cycle should be between 40% and 60%.", 15 ~{CLR} (in) "Asynchronous C\L\R\ Input. When this input is taken low, all Main DAC outputs are cleared either to VBIAS or to VBIAS/16 volts. All Sub DACs are also cleared and thus the transfer function of the Main DAC will remain (See Datasheet)", 16 NC "No Connect. This pin should be left open circuit.", 17 VOUTH (out) "Analog output voltages from the DACs.", 18 VOUTG (out) "Analog output voltages from the DACs.", 19 AVDD (power) "Analog Power Supply. +3.3 V to +5 V.", 20 REFIN (in) "This is an external reference input for the DACs. When this reference is selected for a DAC in the control register, the analog output from the selected DAC swings around this point.", 21 COMP "Compensation Pin. This pin provides an output from the internal VDD/2 divider and is provided for ac bypass purposes only. This pin should be decoupled with 1 nF capacitors to both AVDD and AGND. This pin can be overdriven (See Datasheet)", 22 VOUTD (out) "Analog output voltage from the DACs.", 23 VOUTC (out) "Analog output voltage from the DACs.", 24 AVDD (power) "Analog Power Supply. +3.3 V to +5 V."

## AD7809BSTZ
designator U?
Octal 10-Bit Digital-to-Analog Converter, 3.3 to 5 V, -40 to +85 degC, SU-44, Pb-Free, Tray; Generic Part Number: AD7809; Manufacturer: Analog Devices; PartNumber: AD7809BSTZ; # DAC Outputs: 8; Max V+: 5.5V; Op Pwr Diss: 99mW; Resolution (Bits): 10; Settling Time: 1.5µs; Single Supply: Yes; DatasheetVersion: Rev.A; PackageVersion: 2003; PackageReference: SU-44; PackageDescription: 44-Lead Thin Plastic Quad Flat Package [TQFP]; Supplier 1: Digi-Key; Supplier Part Number 1: AD7809BSTZ-ND; Supplier 2: Newark; Supplier Part Number 2: 59K5502; Supplier 3: Mouser; Supplier Part Number 3: 584-AD7809BSTZ; Packing: Tray; RoHS: Y; Mounting Technology: Surface Mount; Code_JEDEC: MS-026-ACB; ComponentLink1Description: Manufacturer URL; ComponentLink1URL: http://www.analog.com/en/index.html; ComponentLink2Description: Datasheet; ComponentLink2URL: http://www.analog.com/static/imported-files/data_sheets/AD7804_7805_7808_7809.pdf; ComponentLink3Description: Package Specification; ComponentLink3URL: http://www.analog.com/static/imported-files/packages/433604008844224432481202SU_44.pdf; ComponentLink4Description: Product URL; ComponentLink4URL: http://www.analog.com/en/digital-to-analog-converters/da-converters/ad7809/products/product.html
footprint SU-44_N (Thin QFP, 44-Leads, Body 10x10mm, Pitch 0.8mm, IPC Medium Density)
footprint SU-44_L (Thin QFP, 44-Leads, Body 10x10mm, Pitch 0.8mm, IPC High Density)
footprint SU-44_M (Thin QFP, 44-Leads, Body 10x10mm, Pitch 0.8mm, IPC Low Density)
pins: 1 NC "No Connect. These pins should be left open circuit.", 2 AGND (power) "Ground reference point for analog circuitry.", 3 DB9 (in) "Data Input. DB9 to DB2 are the 8 MSBs of the data word.", 4 DB8 (in) "Data Input. DB9 to DB2 are the 8 MSBs of the data word.", 5 AGND (power) "Ground reference point for analog circuitry.", 6 DB7 (in) "Data Input. DB9 to DB2 are the 8 MSBs of the data word.", 7 DB6 (in) "Data Input. DB9 to DB2 are the 8 MSBs of the data word.", 8 VOUTF (out) "Analog output voltages from the DACs.", 9 DB5 (in) "Data Input. DB9 to DB2 are the 8 MSBs of the data word.", 10 DB4 (in) "Data Input. DB9 to DB2 are the 8 MSBs of the data word.", 11 NC "No Connect. These pins should be left open circuit.", 12 VOUTE (out) "Analog output voltages from the DACs.", 13 NC "No Connect. These pins should be left open circuit.", 14 ~{LDAC} (in) "L\D\A\C\ Input. When this digital input is taken low, all DAC registers are simultaneously updated with the contents of the DAC data registers. If L\D\A\C\ is permanently tied low, or is low during the rising edge of W\R\ (See Datasheet)", 15 DB3 (in) "Data Input. DB9 to DB2 are the 8 MSBs of the data word.", 16 DGND (power) "Ground reference point for digital circuitry.", 17 DVDD (power) "Digital Power Supply.", 18 ~{WR} (in) "Write Input W\R\ is an active low logic input which is used in conjunction with C\S\ and the address pins to write data to the relevant registers.", 19 ~{CLR} (in) "Asynchronous C\L\R\ Input. When this input is taken low, all Main DAC outputs are cleared either to VBIAS or to VBIAS/16 volts. All Sub DACs are also cleared and thus the transfer function of the MAIN DAC will remain (See Datasheet)", 20 NC "No Connect. These pins should be left open circuit.", 21 ~{CS} (in) "Chip Select. Active low logic input.", 22 VOUTH (out) "Analog output voltages from the DACs.", 23 DB2 (in) "Data Input. DB9 to DB2 are the 8 MSBs of the data word.", 24 DB1 (in) "DB1 and DB0 function as the 2 LSBs of the 10-bit word in 10-bit parallel mode but have other functions when BYTE loading structure is used.", 25 VOUTG (out) "Analog output voltages from the DACs.", 26 DB0 (in) "DB1 and DB0 function as the 2 LSBs of the 10-bit word in 10-bit parallel mode but have other functions when BYTE loading structure is used.", 27 A2 (in) "DAC Address Inputs. These digital inputs are used in conjunction with C\S\ and W\R\ to determine which DAC channel control register or DAC data register is loaded from the input register. These address bits are don't cares when writing to the system cont", 28 AVDD (power) "Analog Power Supply.", 29 A1 (in) "DAC Address Inputs. These digital inputs are used in conjunction with C\S\ and W\R\ to determine which DAC channel control register or DAC data register is loaded from the input register. These address bits are don’t cares when writing to the system cont", 30 A0 (in) "DAC Address Inputs. These digital inputs are used in conjunction with C\S\ and W\R\ to determine which DAC channel control register or DAC data register is loaded from the input register. These address bits are don’t cares when writing to the system cont", 31 MODE (in) "Logic Input. Logic high enables writing to the DAC data registers, a logic low enables writing to the control registers.", 32 REFIN (in) "This is an external reference input for the DAC. When this reference is selected for the DAC in the control register, the analog output from the selected DAC swings around this point.", 33 NC "No Connect. These pins should be left open circuit.", 34 COMP "Compensation Pin. This pin provides an output from the internal VDD/2 divider and is provided for ac bypass purposes only. This pin should be decoupled with 1 nF capacitors to both AVDD and AGND. This pin can be overdriven (See Datasheet)", 35 VOUTD (out) "Analog output voltages from the DACs.", 36 VOUTC (out) "Analog output voltages from the DACs.", 37 AVDD (power) "Analog Power Supply.", 38 AVDD (power) "Analog Power Supply.", 39 AGND (power) "Ground reference point for analog circuitry.", 40 AGND (power) "Ground reference point for analog circuitry.", 41 VOUTB (out) "Analog output voltages from the DACs.", 42 VOUTA (out) "Analog output voltages from the DACs.", 43 REFOUT (out) "Reference Output. This is a bandgap reference and is typically 1.23 V.", 44 ~{PD} (in) "Active low input used to put the part into low power mode reducing current consumption to 1 uA."